# Altium schematic symbol library GSSSSSSSSD.SchLib: 1 symbol
Pins are listed as number, name and electrical type; pins without a type are passive.

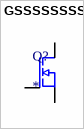
[diagram p0: symbol GSSSSSSSSD]

## GSSSSSSSSD
designator Q?
pins: 1 G, 2 S, 3 S, 4 S, 5 S, 6 S, 7 S, 8 S, 9 D